# EAGLE library part AD-128160-UART (library mita-akiba)
UART LCD display module 2860 yens
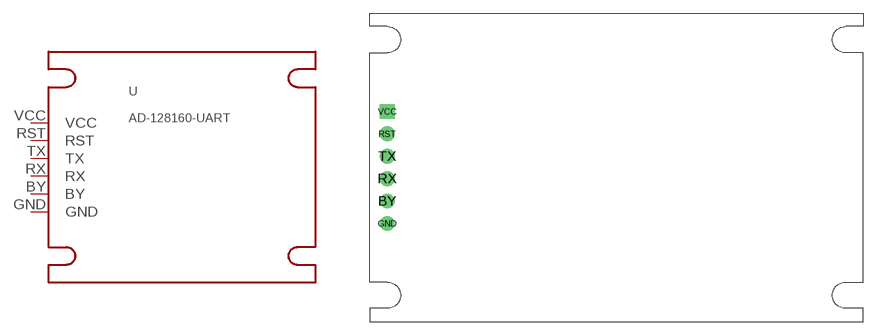
[diagram p61: symbol with the pads of LCD-AD128160; footprint LCD-AD128160]

Designator prefix -

## AD-128160-UART  [LCD-AD128160]
BY  BY
GND  GND
RST  RST
RX  RX
TX  TX
VCC  VCC

## Footprint LCD-AD128160 (pad centres in mm)
drill 1 pad 1.676: BY 0,-3.81; GND 0,-6.35; RST 0,3.81; RX 0,-1.27; TX 0,1.27
drill 1 pad 1.676 square: VCC 0,6.35